# Altium footprint library PcbLib[1].PcbLib: 25 footprints (part 2 of 2)
Each footprint in its own frame and in the unit in brackets; x right, y up, seen from the top. Pads: shape width x height; smd on the part's side, far side on the other; paste and mask are expansions set on the pad; w line width, h text height; cw(c..) or ccw(c..) is an arc to the next point about the centre after c.
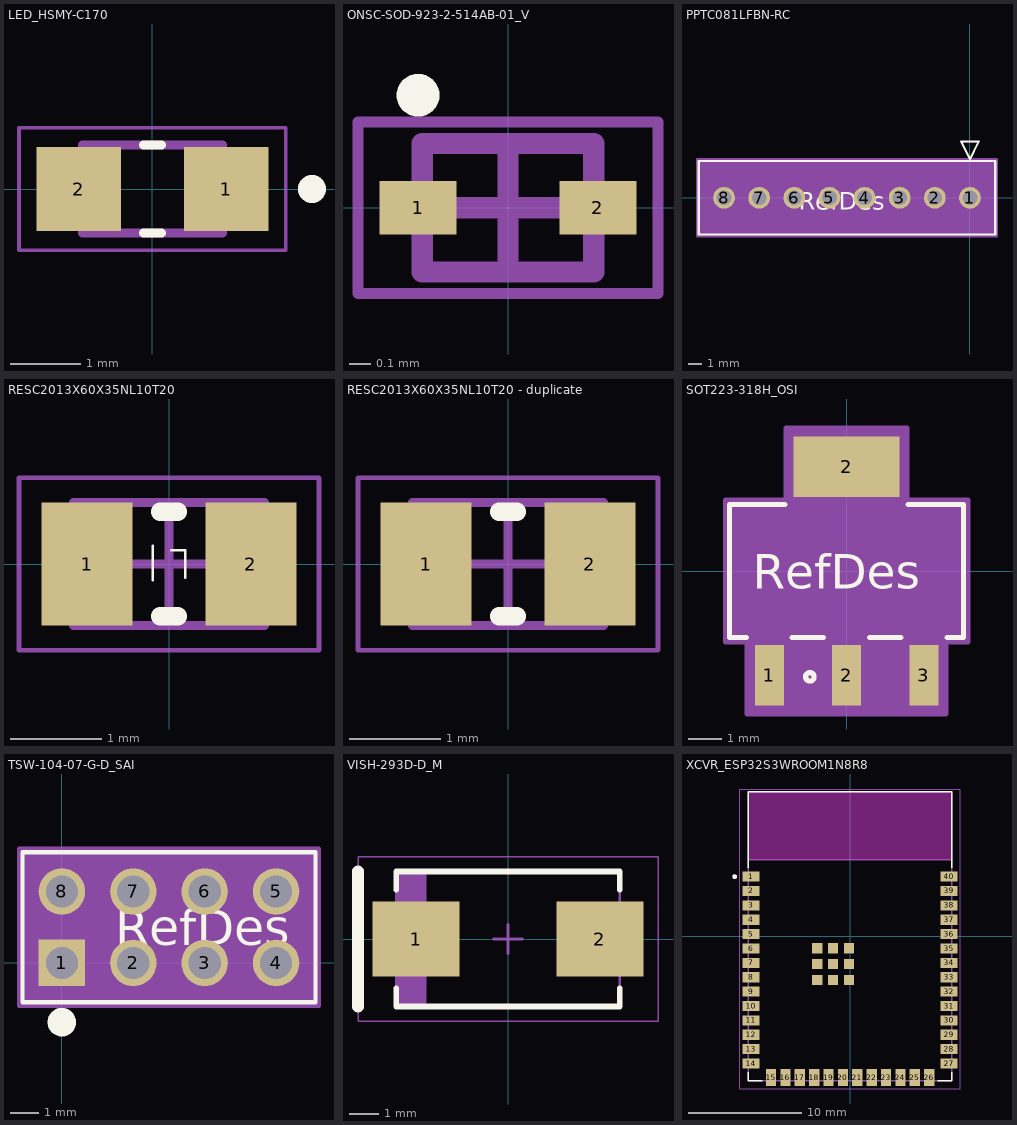
[diagram p1: the footprints below, top view; thin cyan lines are the x and y axes]

## LED_HSMY-C170 [mm]
height 0.8
pads (2):
  rect 1.2x1.2 smd: 1(1.05,0) 2(-1.05,0)
Top Overlay:
  circle w0.2: c2.271,0 r0.1
  circle w0.2: c2.271,0 r0.1
  lines w0.127: -0.13,-0.625 0.13,-0.625 ; -0.13,0.625 0.13,0.625
Top 3D Body:
  lines w0.127: -1,-0.625 -1,0.625 1,0.625 1,-0.625 -1,-0.625
Mechanical 15:
  lines w0.05: -1.9,-0.875 -1.9,0.875 1.9,0.875 1.9,-0.875 -1.9,-0.875
3D body "step_temp.STEP": height 0.8, standoff 0, extent -1,-0.625 1,0.625

## ONSC-SOD-923-2-514AB-01_V [mm] "SOD, 2-Leads, Body 0.8x0.6mm"
height 0.4
pads (2):
  rect 0.36x0.25 smd: 1(-0.42,0) 2(0.42,0)
Top Overlay:
  circle w0.1: c-0.42,0.525 r0.05
Top 3D Body:
  lines w0.1: -0.4,-0.3 -0.4,0.3 0.4,0.3 0.4,-0.3 -0.4,-0.3
Mechanical 15:
  lines w0.05: -0.7,-0.4 0.7,-0.4 0.7,0.4 -0.7,0.4 -0.7,-0.4
  lines w0.1: -0.25,0 0.25,0 ; 0,-0.25 0,0.25
3D body: height 0.4, standoff 0, extent -0.4,-0.3 0.4,0.3

## PPTC081LFBN-RC [mil]
pads (8):
  round 62 / inner round 60 / far side round 62 hole 42 paste-99999 mask+0: 1(0,0) 2(-100,0) 3(-200,0) 4(-300,0) 5(-400,0) 6(-500,0) 7(-600,0) 8(-700,0)
Top Overlay:
  lines w6: -772,-105 -772,105 72,105 72,-105 -772,-105 ; -25,160 25,160 0,110 -25,160
  text "RefDes" at -487,-34 h50
Mechanical 13:
  lines w1: -767,-100 -767,100 67,100 67,-100 -767,-100 ; -25,160 25,160 0,110 -25,160
  text "RefDes2" at -503,29 h50
Mechanical 15:
  region: 77,110 -777,110 -777,-110 77,-110
  lines w6: -777,-110 77,-110 77,110 -777,110 -777,-110
3D body "PPTC081LFBN-RC--3DModel-STEP-269445.STEP": height 335, standoff -126, extent -761,-50 59,50

## RESC2013X60X35NL10T20 [mm] "Chip Resistor, 2-Leads, Body 2.1x1.35mm, IPC Medium Density"
height 0.6
pads (2):
  rect 1x1.35 smd: 1(-0.9,0) 2(0.9,0)
Top Overlay:
  lines w0.025: -0.178,-0.178 -0.178,0.203 ; 0.025,0.152 0.178,0.152 0.178,-0.152 0.178,0
  lines w0.2: -0.1,-0.575 0.1,-0.575 ; -0.1,0.575 0.1,0.575
Mechanical 13:
  lines w0.1: -1.05,-0.675 -1.05,0.675 1.05,0.675 1.05,-0.675 -1.05,-0.675
Mechanical 15:
  lines w0.05: -1.65,-0.95 -1.65,0.95 1.65,0.95 1.65,-0.95 -1.65,-0.95
  lines w0.1: -0.5,0 0.5,0 ; 0,-0.5 0,0.5
3D body "RESC2012X06N.step": height 0.6, standoff 0, extent -1.05,-0.675 1.05,0.675

## RESC2013X60X35NL10T20 - duplicate [mm] "Chip Resistor, 2-Leads, Body 2.1x1.35mm, IPC Medium Density"
height 0.6
pads (2):
  rect 1x1.35 smd: 1(-0.9,0) 2(0.9,0)
Top Overlay:
  lines w0.2: -0.1,-0.575 0.1,-0.575 ; -0.1,0.575 0.1,0.575
Mechanical 13:
  lines w0.1: -1.05,-0.675 -1.05,0.675 1.05,0.675 1.05,-0.675 -1.05,-0.675
Mechanical 15:
  lines w0.05: -1.65,-0.95 -1.65,0.95 1.65,0.95 1.65,-0.95 -1.65,-0.95
  lines w0.1: -0.5,0 0.5,0 ; 0,-0.5 0,0.5
3D body "RESC2012X06N.step": height 0.6, standoff 0, extent -1.05,-0.675 1.05,0.675

## SOT223-318H_OSI [mil]
pads (4):
  rect 34x71 smd paste+0 mask+0: 1(-90.55,-122) 2(0,-122) 3(90.55,-122)
  rect 124x71 smd: 2(0,122)
Top Overlay:
  circle w6: c-43,-124 r5
  lines w6: -117.52,-78 -137,-78 -137,78 -71.97,78 ; -63.58,-78 -26.97,-78 ; 26.97,-78 63.58,-78 ; 71.97,78 137,78 137,-78 117.52,-78
  text "RefDes" at -110,-21 h40
Top Paste:
  region: 62,86.5 62,157.5 -62,157.5 -62,86.5
Top 3D Body:
  lines w1: -132,-73 132,-73 132,73 -132,73 -132,-73 ; -106.55,-143.5 -106.55,-73 -74.55,-73 -74.55,-143.5 -106.55,-143.5 ; -61,73 -61,143.5 61,143.5 61,73 -61,73 ; -16,-143.5 -16,-73 16,-73 16,-143.5 -16,-143.5 ; 74.55,-143.5 74.55,-73 106.55,-73 106.55,-143.5 74.55,-143.5
Mechanical 13:
  circle w0: c-122,-63 r5
  text "RefDes2" at -87.5,-25 h50
Mechanical 15:
  region: -141,-80 -141,86 -70,86 -70,170.5 72,170.5 72,86 143,86 143,-80 117.55,-80 117.55,-164.5 -115.55,-164.5 -115.55,-80
  lines w6: -142,-83 -116.55,-83 -116.55,-167.5 116.55,-167.5 116.55,-83 142,-83 142,83 71,83 71,167.5 -71,167.5 -71,83 -142,83 -142,-83
3D body "SOT223-318H_OSI.step": height 71.1, standoff 0, extent -132.01,-143.5 132.01,143.5

## TSW-104-07-G-D_SAI [mil]
pads (8):
  rect 65x65 / inner round 60 / far side rect 65x65 hole 45 paste-99999 mask+0: 1(0,0)
  round 65 / inner round 60 / far side round 65 hole 45 paste-99999 mask+0: 2(100,0) 3(200,0) 4(300,0) 5(300,100) 6(200,100) 7(100,100) 8(0,100)
Top Overlay:
  circle w20: c0,-83 r10
  lines w6: -55,-55 355,-55 355,155 -55,155 -55,-55
  text "RefDes" at 75,25 h50
Mechanical 13:
  circle w0: c0,-35 r10
  lines w1: -50,-50 350,-50 350,150 -50,150 -50,-50
  text "RefDes2" at 80,10 h50
Mechanical 15:
  region: 360,160 -60,160 -60,-60 360,-60
  lines w6: -60,-60 -60,160 360,160 360,-60 -60,-60
3D body "TSW-104-07-G-D_SAI.step": height 330, standoff -200, extent -50,-50 350,150

## VISH-293D-D_M [mm] "Molded Capacitor, 2-Leads, Body 7.6x4.6mm, IPC Low Density"
height 3.1
pads (2):
  rect 2.95x2.55 smd: 1(-3.125,0) 2(3.125,0)
Top Overlay:
  lines w0.2: -3.8,-1.675 -3.8,-2.3 3.8,-2.3 3.8,-1.675 ; -3.8,1.675 -3.8,2.3 3.8,2.3 3.8,1.675
  lines w0.4: -5.1,-2.3 -5.1,2.3
Mechanical 13:
  rectangle: -3.8,-2.3 -2.778,2.3
  lines w0.1: -3.8,-2.3 3.8,-2.3 3.8,2.3 -3.8,2.3 -3.8,-2.3
Mechanical 15:
  lines w0.05: -5.1,-2.8 5.1,-2.8 5.1,2.8 -5.1,2.8 -5.1,-2.8
  lines w0.1: -0.5,0 0.5,0 ; 0,-0.5 0,0.5
3D body "CAPMP7343X31M.step": height 3.1, standoff 0, extent -4.02,-2.3 4.02,2.3

## XCVR_ESP32S3WROOM1N8R8 [mm]
pads (49):
  rect 1.5x0.9 smd: 1(-8.75,5.26) 2(-8.75,3.99) 3(-8.75,2.72) 4(-8.75,1.45) 5(-8.75,0.18) 6(-8.75,-1.09) 7(-8.75,-2.36) 8(-8.75,-3.63) 9(-8.75,-4.9) 10(-8.75,-6.17) 11(-8.75,-7.44) 12(-8.75,-8.71) 13(-8.75,-9.98) 14(-8.75,-11.25) 27(8.75,-11.25) 28(8.75,-9.98) 29(8.75,-8.71) 30(8.75,-7.44) 31(8.75,-6.17) 32(8.75,-4.9) 33(8.75,-3.63) 34(8.75,-2.36) 35(8.75,-1.09) 36(8.75,0.18) 37(8.75,1.45) 38(8.75,2.72) 39(8.75,3.99) 40(8.75,5.26)
  rect 0.9x1.5 smd: 15(-6.985,-12.5) 16(-5.715,-12.5) 17(-4.445,-12.5) 18(-3.175,-12.5) 19(-1.905,-12.5) 20(-0.635,-12.5) 21(0.635,-12.5) 22(1.905,-12.5) 23(3.175,-12.5) 24(4.445,-12.5) 25(5.715,-12.5) 26(6.985,-12.5)
  rect 0.9x0.9 smd: 41_1(-1.5,-2.46) 41_2(-2.9,-2.46) 41_3(-0.1,-2.46) 41_4(-2.9,-3.86) 41_5(-1.5,-3.86) 41_6(-0.1,-3.86) 41_7(-2.9,-1.06) 41_8(-1.5,-1.06) 41_9(-0.1,-1.06)
Top Overlay:
  circle w0.2: c-10.2,5.26 r0.1
  lines w0.127: -9,-12.02 -9,-12.75 -7.755,-12.75 ; -9,6.03 -9,12.75 9,12.75 9,6.03 ; 7.755,-12.75 9,-12.75 9,-12.02
Keep-Out Layer:
  region: 9,6.75 -9,6.75 -9,12.75 9,12.75
  region: 9,6.75 -9,6.75 -9,12.75 9,12.75
Mechanical 13:
  circle w0.2: c-10.2,5.26 r0.1
  lines w0.127: -9,6.75 -9,-12.75 9,-12.75 9,6.75 ; -9,6.75 -9,12.75 9,12.75 9,6.75 ; -9,6.75 9,6.75
  text "ANTENNA" at -4.5,9.5 h1.27
Mechanical 15:
  lines w0.05: -9.75,-13.5 -9.75,13 9.75,13 9.75,-13.5 -9.75,-13.5
3D body "step_temp.STEP": height 3.25, standoff 0, extent -9,-12.75 9,12.75